# EAGLE library part ADIS16480 (library barthess)
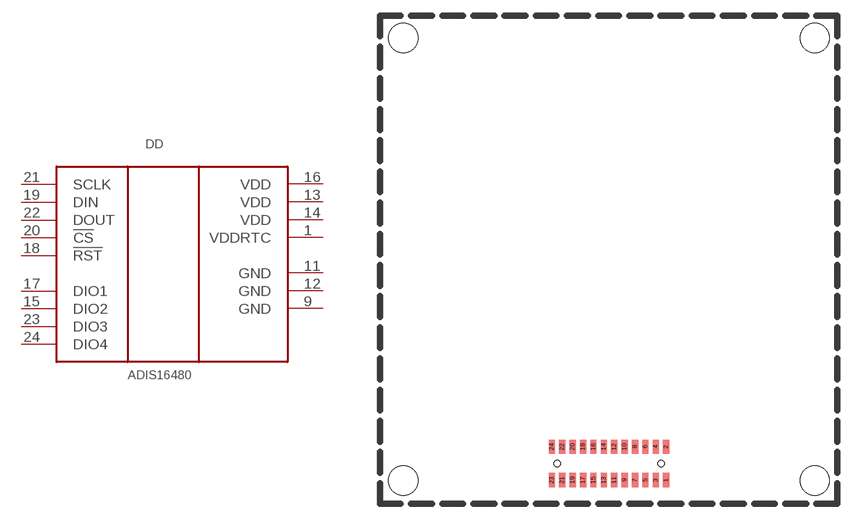
[diagram p27: symbol with the pads of ADIS16480; footprint ADIS16480]

Designator prefix DD

## ADIS16480  [ADIS16480]
1  VDDRTC  pwr
9  GND  pwr
11  GND  pwr
12  GND  pwr
13  VDD  pwr
14  VDD  pwr
15  DIO2
16  VDD  pwr
17  DIO1
18  !RST  in
19  DIN  in
20  !CS  in
21  SCLK  in
22  DOUT  out
23  DIO3
24  DIO4

## Footprint ADIS16480 (pad centres in mm)
smd 0.61 x 1.37: 1 25.3,0.05; 2 25.3,3.25; 3 24.3,0.05; 4 24.3,3.25; 5 23.3,0.05; 6 23.3,3.25; 7 22.3,0.05; 8 22.3,3.25; 9 21.3,0.05; 10 21.3,3.25; 11 20.3,0.05; 12 20.3,3.25; 13 19.3,0.05; 14 19.3,3.25; 15 18.3,0.05; 16 18.3,3.25; 17 17.3,0.05; 18 17.3,3.25; 19 16.3,0.05; 20 16.3,3.25; 21 15.3,0.05; 22 15.3,3.25; 23 14.3,0.05; 24 14.3,3.25
hole 2.8 at 0,0
hole 2.8 at 0,42.6
hole 2.8 at 39.6,42.6
hole 2.8 at 39.6,0
hole 0.6 at 14.8,1.642
hole 0.6 at 24.8,1.642